# Altium footprint library CAPC1006X065.PcbLib: 3 footprints
Each footprint in its own frame and in the unit in brackets; x right, y up, seen from the top. Pads: shape width x height; smd on the part's side, far side on the other; paste and mask are expansions set on the pad; w line width, h text height; cw(c..) or ccw(c..) is an arc to the next point about the centre after c.
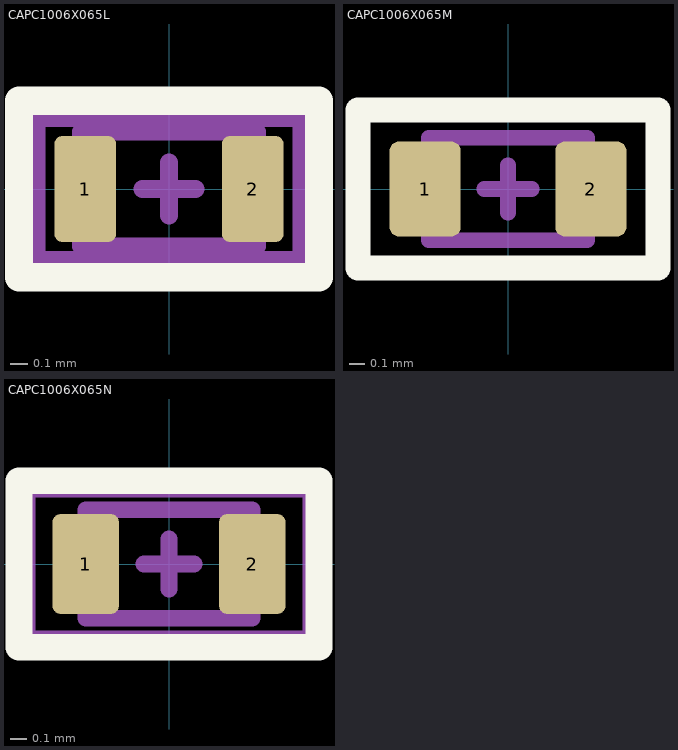
[diagram p0: the footprints below, top view; thin cyan lines are the x and y axes]

## CAPC1006X065L [mm] "Capacitors, Chip, Non-polarized"
height 0.8
pads (2):
  rrect25% 0.35x0.6 smd: 1(-0.475,0) 2(0.475,0)
Top Overlay:
  lines w0.16: -0.85,-0.5 0.85,-0.5 0.85,0.5 -0.85,0.5 -0.85,-0.5
Top Component Center:
  lines w0.1: -0.15,0 0.15,0 ; 0,-0.15 0,0.15
Top Courtyard:
  lines w0.1: -0.75,-0.4 0.75,-0.4 0.75,0.4 -0.75,0.4 -0.75,-0.4
Top Assembly:
  lines w0.1: -0.5,-0.325 0.5,-0.325 0.5,0.325 -0.5,0.325 -0.5,-0.325
  text ".Designator" at 0,0 h1
3D body "CAPC1006X065L.STEP": height 0.65, standoff 0, extent -0.5,-0.325 0.5,0.325

## CAPC1006X065M [mm] "Capacitors, Chip, Non-polarized"
height 0.8
pads (2):
  rrect25% 0.45x0.6 smd: 1(-0.525,0) 2(0.525,0)
Top Overlay:
  lines w0.16: -0.95,-0.5 0.95,-0.5 0.95,0.5 -0.95,0.5 -0.95,-0.5
Top Component Center:
  lines w0.1: -0.15,0 0.15,0 ; 0,-0.15 0,0.15
Top Courtyard:
  lines w0.1: -0.95,-0.5 0.95,-0.5 0.95,0.5 -0.95,0.5 -0.95,-0.5
Top Assembly:
  lines w0.1: -0.5,-0.325 0.5,-0.325 0.5,0.325 -0.5,0.325 -0.5,-0.325
  text ".Designator" at 0,0 h1
3D body "CAPC1006X065M.STEP": height 0.65, standoff 0, extent -0.5,-0.325 0.5,0.325

## CAPC1006X065N [mm] "Capacitors, Chip, Non-polarized"
height 0.8
pads (2):
  rrect25% 0.4x0.6 smd: 1(-0.5,0) 2(0.5,0)
Top Overlay:
  lines w0.16: -0.9,-0.5 0.9,-0.5 0.9,0.5 -0.9,0.5 -0.9,-0.5
Top Component Center:
  lines w0.1: -0.15,0 0.15,0 ; 0,-0.15 0,0.15
Top Courtyard:
  lines w0.1: -0.85,-0.45 0.85,-0.45 0.85,0.45 -0.85,0.45 -0.85,-0.45
Top Assembly:
  lines w0.1: -0.5,-0.325 0.5,-0.325 0.5,0.325 -0.5,0.325 -0.5,-0.325
  text ".Designator" at 0,0 h1
3D body "CAPC1006X065N.STEP": height 0.65, standoff 0, extent -0.5,-0.325 0.5,0.325